# EAGLE library part AG9900_AG9905LP (library xmos_avb_brd_V4)
PoE Module for powered devices 7W, 5V, THT
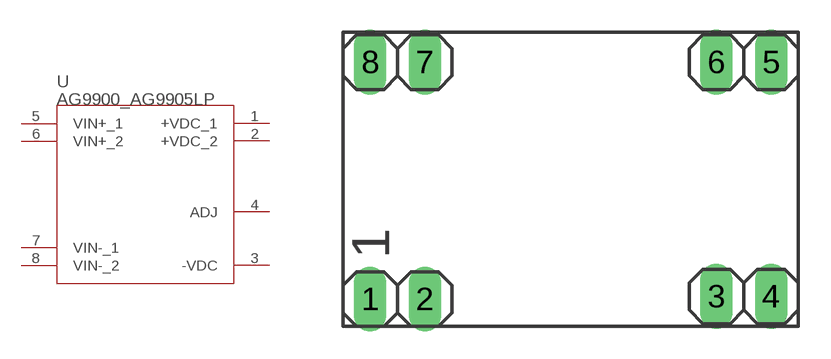
[diagram p3: symbol with the pads of AG9900_AG9900LP; footprint AG9900_AG9900LP]

Designator prefix U

## AG9900_AG9905LP (MF: Silvertel; MP: AG9905LP)  [AG9900_AG9900LP]
1  +VDC_1
2  +VDC_2
3  -VDC
4  ADJ
5  VIN+_1
6  VIN+_2
7  VIN-_1
8  VIN-_2

## Footprint AG9900_AG9900LP (pad centres in mm)
PIN HEADER
drill 1.016 long: 1 -19.939,-3.175; 2 -17.399,-3.175; 3 -3.81,-3.048; 4 -1.27,-3.048; 5 -1.27,7.874; 6 -3.81,7.874; 7 -17.399,7.874; 8 -19.939,7.874